# Altium footprint library libreriaPcb.PcbLib: 683 footprints (part 35 of 44)
Each footprint in its own frame and in the unit in brackets; x right, y up, seen from the top. Pads: shape width x height; smd on the part's side, far side on the other; paste and mask are expansions set on the pad; w line width, h text height; cw(c..) or ccw(c..) is an arc to the next point about the centre after c.
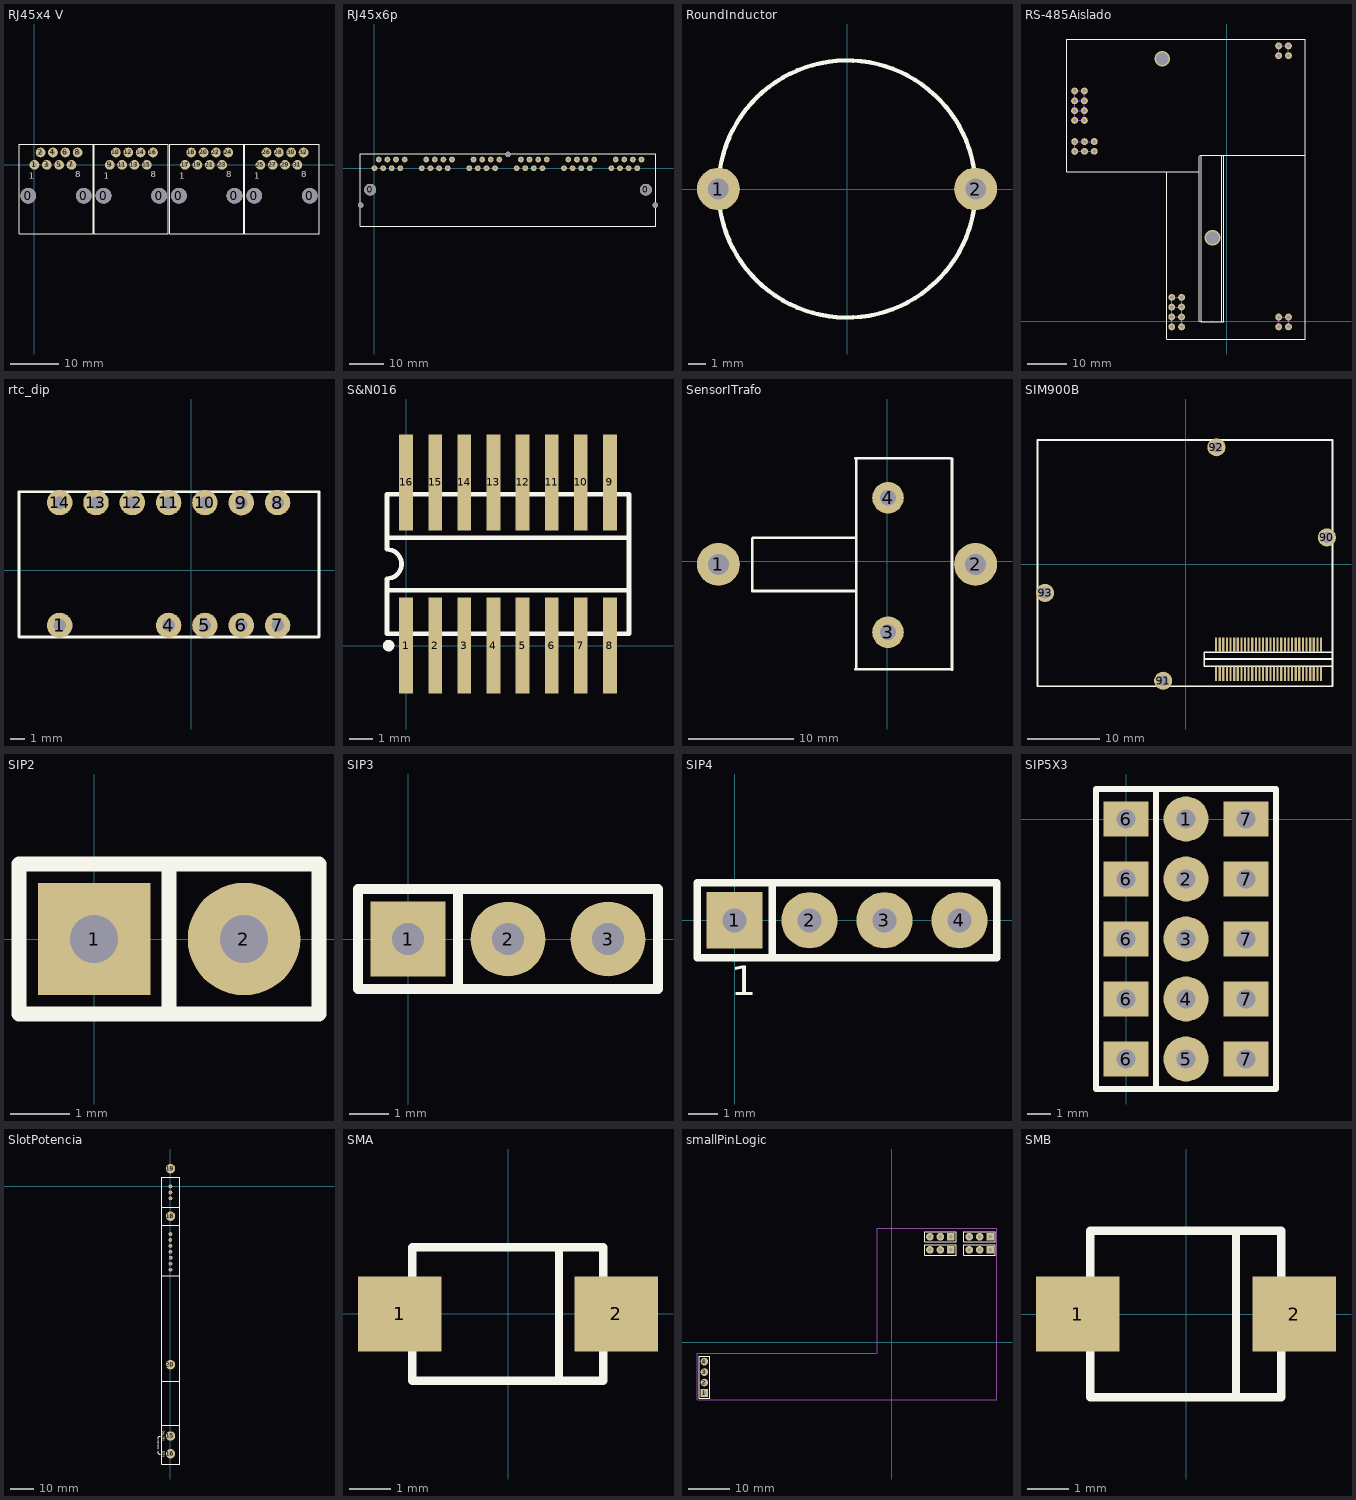
[diagram p34: the footprints below, top view; thin cyan lines are the x and y axes]

## RJ45x4 V [mm]
pads (40):
  round 3.25 hole 3.25: 0(-1.27,-6.35) 0(10.16,-6.35) 0(14.224,-6.35) 0(25.654,-6.35) 0(29.718,-6.35) 0(41.148,-6.35) 0(45.212,-6.35) 0(56.642,-6.35)
  round 2 hole 0.889: 1(0,0) 2(1.27,2.54) 3(2.54,0) 4(3.81,2.54) 5(5.08,0) 6(6.35,2.54) 7(7.62,0) 8(8.89,2.54) 9(15.494,0) 10(16.764,2.54) 11(18.034,0) 12(19.304,2.54) 13(20.574,0) 14(21.844,2.54) 15(23.114,0) 16(24.384,2.54) 17(30.988,0) 18(32.258,2.54) 19(33.528,0) 20(34.798,2.54) 21(36.068,0) 22(37.338,2.54) 23(38.608,0) 24(39.878,2.54) 25(46.482,0) 26(47.752,2.54) 27(49.022,0) 28(50.292,2.54) 29(51.562,0) 30(52.832,2.54) 31(54.102,0) 32(55.372,2.54)
Top Overlay:
  lines w0.203: -3.175,-14.182 12.065,-14.182 12.065,4.233 -3.175,4.233 -3.175,-14.182 ; 12.319,-14.182 27.559,-14.182 27.559,4.233 12.319,4.233 12.319,-14.182 ; 27.813,-14.182 43.053,-14.182 43.053,4.233 27.813,4.233 27.813,-14.182 ; 43.307,-14.182 43.307,4.233 58.547,4.233 58.547,-14.182 43.307,-14.182
  text "1" at 45.267,-2.899 h1.27
  text "8" at 54.926,-2.567 h1.27
  text "8" at 39.432,-2.567 h1.27
  text "1" at 29.773,-2.899 h1.27
  text "8" at 8.444,-2.567 h1.27
  text "1" at -1.215,-2.899 h1.27
  text "8" at 23.938,-2.567 h1.27
  text "1" at 14.279,-2.899 h1.27

## RJ45x6p [mm]
pads (53):
  round 1.6 hole 1.6: 0(-4.06,-10.92) 0(39.37,4.06) 0(82.8,-10.92)
  round 3.5 hole 3.5: 0(-1.27,-6.35) 0(80.01,-6.35)
  round 1.7 hole 0.9: 1A(0,0) 1B(13.97,0) 1C(27.94,0) 1D(41.91,0) 1E(55.88,0) 1F(69.85,0) 2A(1.27,2.54) 2B(15.24,2.54) 2C(29.21,2.54) 2D(43.18,2.54) 2E(57.15,2.54) 2F(71.12,2.54) 3A(2.54,0) 3B(16.51,0) 3C(30.48,0) 3D(44.45,0) 3E(58.42,0) 3F(72.39,0) 4A(3.81,2.54) 4B(17.78,2.54) 4C(31.75,2.54) 4D(45.72,2.54) 4E(59.69,2.54) 4F(73.66,2.54) 5A(5.08,0) 5B(19.05,0) 5C(33.02,0) 5D(46.99,0) 5E(60.96,0) 5F(74.93,0) 6A(6.35,2.54) 6B(20.32,2.54) 6C(34.29,2.54) 6D(48.26,2.54) 6E(62.23,2.54) 6F(76.2,2.54) 7A(7.62,0) 7B(21.59,0) 7C(35.56,0) 7D(49.53,0) 7E(63.5,0) 7F(77.47,0) 8A(8.89,2.54) 8B(22.86,2.54) 8C(36.83,2.54) 8D(50.8,2.54) 8E(64.77,2.54) 8F(78.74,2.54)
Top Overlay:
  lines w0.254: -4.19,-17.15 -4.19,4.19 82.93,4.19 82.93,-17.15 -4.19,-17.15

## RoundInductor [mm]
pads (2):
  round 2.5 hole 1.2: 1(-7.5,0) 2(7.5,0)
Top Overlay:
  circle w0.254: c0,0 r7.5
3D body: height 20, standoff 0, extent -7.499,-7.499 7.499,7.499

## RS-485Aislado [mm]
pads (30):
  round 1.75 hole 0.9: 0(-38.76,58.54) 1(-38.77,56.03) 2(-38.77,53.51) 3(-38.77,51.06) 4(-36.27,58.54) 5(-36.27,56.04) 6(-36.27,53.54) 7(-36.27,51.04) 8(13.14,70.01) 9(13.14,67.52) 10(15.64,70.01) 11(15.65,67.52) 12(13.16,1.02) 13(13.16,-1.47) 14(15.66,1.02) 15(15.66,-1.46) 16(-14.04,6.04) 17(-14.05,3.54) 18(-14.05,1.05) 19(-14.05,-1.48) 20(-11.55,6.04) 21(-11.55,3.59) 22(-11.55,1.04) 23(-11.55,-1.47) 24(-33.76,43.2) 25(-36.24,43.2) 26(-38.74,43.17) 27(-38.74,45.67) 28(-33.76,45.67) 29(-36.24,45.65)
via -3.68,21.17 diameter 4 hole 3.25
via -16.49,66.72 diameter 4 hole 3.25
Top Overlay:
  lines w0.254: -15.39,37.94 -7.14,37.94 ; -15.32,37.94 -15.32,-4.56 19.95,-4.56 19.95,71.71 19.9,71.76 -36.81,71.76 -40.78,71.76 -40.79,71.75 -40.79,42.02 -40.79,38.03 -40.74,37.98 -15.32,37.98 ; -7.01,-0.09 -7.01,41.99 ; -6.96,42.17 19.95,42.17 ; -6.93,-0.09 -6.45,-0.09 ; -6.52,42.01 -6.52,4.39 -6.52,-0.11 -1.34,-0.11 -1.27,-0.04 -1.27,4.42 -1.27,42.01 ; -1.27,-0.14 -0.83,-0.14 -0.79,-0.1 -0.79,42.01
Mechanical 1:
  lines w0.254: -39.09,43.17 -38.34,43.17 -38.75,43.17 ; -38.78,51.04 -38.78,58.57 ; -38.77,53.51 -38.74,53.54 -36.27,53.54 ; -38.77,56.03 -38.76,56.04 -36.3,56.04 ; -38.77,58.54 -38.77,51.06 -38.75,51.04 -36.27,51.04 ; -38.77,58.55 -38.76,58.54 -36.27,58.54 ; -38.76,51.06 -38.76,53.53 ; -38.73,43.69 -38.74,43.7 -38.74,45.67 ; -37.65,51.04 -37.97,51.04 ; -37.36,45.67 -37.04,45.67 ; -36.64,51.04 -37.97,51.04 ; -36.28,53.02 -36.27,53.01 ; -36.27,56.04 -36.27,58.54 ; -36.24,45.65 -36.26,45.67 -38.74,45.67 ; -35.94,56.04 -36.64,56.04 -36.3,56.04 ; -35.92,53.54 -36.67,53.54 -36.27,53.54 ; -35.87,58.54 -36.7,58.54 -36.27,58.54 ; -33.76,43.2 -36.24,43.2 -36.27,43.17 -38.74,43.17 -38.74,45.67 ; -33.76,45.67 -36.24,45.67 ; -14.05,-1.48 -14.05,1.04 ; -11.63,1.04 -14.04,1.04 -14.05,1.05 -14.05,3.54 ; -11.56,3.54 -14.05,3.54 ; -11.55,-1.47 -11.55,1.04 -11.55,3.54 -11.55,6.04 -14.04,6.04 -14.05,6.03 -14.05,3.54 ; -3.9,-0.13 -3.69,0.08 ; 13.14,67.52 13.14,70.01 15.64,70.01 ; 13.14,71.73 13.15,71.72 ; 13.16,-1.47 13.16,1.02 15.66,1.02 15.66,-1.48 ; 15.61,69.98 15.64,70.01 ; 15.65,67.52 15.64,67.51 15.64,70.01 ; -38.74,45.67 -37.04,45.67 ; -37.97,51.04 -38.77,51.04 -37.97,51.04 ; -37.04,45.67 -36.24,45.67 ; -37.04,45.67 -36.24,45.67 ; -36.3,56.04 -36.27,56.01 -36.27,53.54 ; -36.27,51.04 -36.27,53.54 ; -36.27,51.04 -36.27,53.01 ; -36.27,53.01 -36.27,58.54

## rtc_dip [mm]
pads (12):
  round 1.75 hole 0.85: 1(-9.05,-3.8) 4(-1.55,-3.8) 5(0.95,-3.8) 6(3.45,-3.8) 7(5.95,-3.8) 8(5.95,4.65) 9(3.45,4.646) 10(0.95,4.65) 11(-1.55,4.65) 12(-4.05,4.65) 13(-6.55,4.65) 14(-9.05,4.65)
Top Overlay:
  lines w0.2: -11.85,-4.6 8.8,-4.6 8.8,5.4 3.75,5.4 -11.85,5.4 -11.85,-4.6
3D body: height 8, standoff 0, extent -11.79,-4.59 8.8,5.4

## S&N016 [mm] "SMD"
pads (16):
  rect 0.6x4.191 smd: 1(0,0) 2(1.27,0) 3(2.54,0) 4(3.81,0) 5(5.08,0) 6(6.35,0) 7(7.62,0) 8(8.89,0) 9(8.89,7.118) 10(7.62,7.118) 11(6.35,7.118) 12(5.08,7.118) 13(3.81,7.118) 14(2.54,7.118) 15(1.27,7.118) 16(0,7.118)
Top Overlay:
  circle w0.25: c-0.76,0 r0.125
  lines w0.2: -0.83,2.413 9.72,2.413 ; -0.83,4.699 9.72,4.699 ; -0.83,0.509 9.72,0.509 9.72,6.609 -0.83,6.609 -0.83,4.194 cw(c-0.83,3.559) -0.83,2.924 -0.83,0.509

## SensorITrafo [mm]
pads (4):
  round 4.064 hole 2: 1(-16.01,-0.305) 2(8.365,-0.305)
  round 3 hole 1.5: 3(0.065,-6.73) 4(0.065,6.02)
Top Overlay:
  lines w0.254: -3.01,-10.255 5.99,-10.255 ; -3.01,9.77 5.99,9.77 ; -2.942,-10.255 -2.942,9.745 ; -2.942,-2.83 -12.81,-2.83 -12.81,2.12 -12.71,2.22 -2.942,2.22 ; 6.133,-10.305 6.133,9.695
3D body: height 4, standoff 0.2, extent -2.942,-10.255 5.99,9.745
3D body: height 19.92, standoff 0, extent -1.985,-10.255 6.015,9.706
3D body: height 17.94, standoff 2, extent -1.56,-8.378 5.44,7.591
3D body: height 11.98, standoff 8, extent -16.41,-2.305 8.59,1.687
3D body: height 0.2, standoff -1, extent -0.332,5.621 0.465,6.42
3D body: height 12, standoff 0, extent -17.994,-2.301 -14.01,1.692
3D body: height 12, standoff 0, extent 6.381,-2.301 10.365,1.692
3D body: height 0.2, standoff -1, extent -0.332,-7.129 0.465,-6.33

## SIM900B [mm]
pads (64):
  rect 0.3x2 smd: 1(18.655,-11.175) 2(18.655,-15.175) 3(18.155,-11.175) 4(18.155,-15.175) 5(17.655,-11.175) 6(17.655,-15.175) 7(17.155,-11.175) 8(17.155,-15.175) 9(16.655,-11.175) 10(16.655,-15.175) 11(16.155,-11.175) 12(16.155,-15.175) 13(15.655,-11.175) 14(15.655,-15.175) 15(15.155,-11.175) 16(15.155,-15.175) 17(14.655,-11.175) 18(14.655,-15.175) 19(14.155,-11.175) 20(14.155,-15.175) 21(13.655,-11.175) 22(13.655,-15.175) 23(13.155,-11.175) 24(13.155,-15.175) 25(12.655,-11.175) 26(12.655,-15.175) 27(12.155,-11.175) 28(12.155,-15.175) 29(11.655,-11.175) 30(11.655,-15.175) 31(11.155,-11.175) 32(11.155,-15.175) 33(10.655,-11.175) 34(10.655,-15.175) 35(10.155,-11.175) 36(10.155,-15.175) 37(9.655,-11.175) 38(9.655,-15.175) 39(9.155,-11.175) 40(9.155,-15.175) 41(8.655,-11.175) 42(8.655,-15.175) 43(8.155,-11.175) 44(8.155,-15.175) 45(7.655,-11.175) 46(7.655,-15.175) 47(7.155,-11.175) 48(7.155,-15.175) 49(6.655,-11.175) 50(6.655,-15.175) 51(6.155,-11.175) 52(6.155,-15.175) 53(5.655,-11.175) 54(5.655,-15.175) 55(5.155,-11.175) 56(5.155,-15.175) 57(4.655,-11.175) 58(4.655,-15.175) 59(4.155,-11.175) 60(4.155,-15.175)
  round 2.5 hole 1.5: 90(19.47,3.675) 91(-3.15,-16.125) 92(4.2,16.125) 93(-19.47,-3.995)
Top Overlay:
  lines w0.2: 20.255,-12.175 19.005,-12.175 2.525,-12.175 2.525,-14.155 20.275,-14.155
  lines w0.254: -19.754,-3.995 -19.246,-3.995 ; -19.5,-4.249 -19.5,-3.741 ; 2.255,-16.885 20.255,-16.885 ; 2.535,-13.125 20.265,-13.125 ; 19.236,3.675 19.744,3.675 ; 19.48,3.675 19.49,3.675 ; 19.49,3.421 19.49,3.929 ; 20.255,-12.175 20.255,-16.885 ; 20.255,-16.885 -20.505,-16.885 -20.505,17.145 20.255,17.145 20.255,-16.885

## SIP2 [mil]
pads (2):
  rect 75x75 hole 32: 1(0,0)
  round 75 hole 32: 2(100,0)
Top Overlay:
  lines w10: 50,-50 50,50 ; -50,-50 150,-50 150,50 -50,50 -50,-50

## SIP3 [mil]
pads (3):
  rect 75x75 hole 32: 1(0,0)
  round 75 hole 32: 2(100,0) 3(200,0)
Top Overlay:
  lines w10: 50,-50 50,50 ; -50,-50 250,-50 250,50 -50,50 -50,-50

## SIP4 [mil]
pads (4):
  rect 75x75 hole 32: 1(0,0)
  round 75 hole 32: 2(100,0) 3(200,0) 4(300,0)
Top Overlay:
  lines w10: 50,-50 50,50 ; -50,-50 350,-50 350,50 -50,50 -50,-50
  text "1" at -5,-100 h39.37

## SIP5X3 [mm]
pads (15):
  round 1.9 hole 0.8: 1(2.54,0) 2(2.54,-2.54) 3(2.54,-5.08) 4(2.54,-7.62) 5(2.54,-10.16)
  rect 1.9x1.5 hole 0.8: 6(0,-10.16) 6(0,-7.62) 6(0,-5.08) 6(0,-2.54) 6(0,0) 7(5.08,-10.16) 7(5.08,-7.62) 7(5.08,-5.08) 7(5.08,-2.54) 7(5.08,0)
Top Overlay:
  lines w0.254: 1.27,-11.43 1.27,-8.89 1.27,1.27 ; -1.27,-11.43 6.35,-11.43 6.35,1.27 -1.27,1.27 -1.27,-11.43

## SlotPotencia [mm]
height 101.6
pads (15):
  round 1.6 hole 0.9: 1(0,0) 2(0,-2.54) 3(0,-5.08) 6(0,-20.32) 7(-0.075,-22.86) 8(-0.025,-25.4) 9(-0.025,-27.94) 10(0.05,-30.48) 11(0,-33.02) 12(0,-35.56)
  round 4 hole 2: 15(0,-106.68) 16(0,-114.3) 18(0,-12.7) 19(0,7.62) 20(0,-76.2)
Top Overlay:
  lines w0.254: -5.225,-113.15 -5.225,-114.075 -4.775,-114.525 -4.325,-114.525 ; -5.225,-108.05 -5.225,-107.275 -4.763,-106.813 -4.363,-106.813 ; -3.775,-38.1 3.875,-38.1 ; -3.725,-102.075 3.925,-102.075 ; -3.725,-16.51 3.925,-16.51 ; -3.7,-83.2 3.95,-83.2 ; -3.7,-8.89 3.75,-8.89 ; -3.725,-118.675 -3.725,3.975 3.925,3.975 3.925,-118.675 -3.725,-118.675
  text "220VAC" at -4.9,-112.675 h0.75
  text "NEUTRO" at -2.425,-108.975 h0.75
  text "FASE" at -2.425,-115.7 h0.75

## SMA [mm]
pads (2):
  rect 2x1.8 smd: 1(-2.6,0) 2(2.6,0)
Top Overlay:
  lines w0.2: -2.295,-0.02 -2.295,-1.61 2.285,-1.61 2.285,1.6 -2.295,1.6 -2.295,0 ; 1.225,-1.6 1.225,1.6
3D body: height 2, standoff 0, extent -2.405,-1.55 2.395,1.55

## smallPinLogic [mm]
pads (16):
  rect 1.85x1.85 hole 0.9: 1(-45.402,-12.243) 21(14.287,22.428) 31(14.287,25.603) 41(23.812,22.428) 51(23.812,25.603)
  round 1.85 hole 0.9: 2(-45.402,-9.703) 3(-45.402,-7.163) 4(-45.402,-4.623) 22(11.747,22.428) 23(9.207,22.428) 32(11.747,25.603) 33(9.207,25.603) 42(21.273,22.428) 43(18.732,22.428) 52(21.273,25.603) 53(18.732,25.603)
Top Overlay:
  lines w0.2: 7.938,21.158 7.938,23.698 ; 7.938,21.158 15.557,21.158 ; 7.938,21.158 7.938,23.698 ; 7.938,21.158 15.557,21.158 ; 7.938,23.698 15.557,23.698 ; 7.938,23.698 15.557,23.698 ; 7.938,24.333 7.938,26.873 ; 7.938,24.333 15.557,24.333 ; 7.938,24.333 7.938,26.873 ; 7.938,24.333 15.557,24.333 ; 7.938,26.873 15.557,26.873 ; 7.938,26.873 15.557,26.873 ; 15.557,21.158 15.557,23.698 ; 15.557,21.158 15.557,23.698 ; 15.557,24.333 15.557,26.873 ; 15.557,24.333 15.557,26.873 ; 17.462,21.158 17.462,23.698 ; 17.462,21.158 25.082,21.158 ; 17.462,21.158 17.462,23.698 ; 17.462,21.158 25.082,21.158 ; 17.462,23.698 25.082,23.698 ; 17.462,23.698 25.082,23.698 ; 17.462,24.333 17.462,26.873 ; 17.462,24.333 25.082,24.333 ; 17.462,24.333 17.462,26.873 ; 17.462,24.333 25.082,24.333 ; 17.462,26.873 25.082,26.873 ; 17.462,26.873 25.082,26.873 ; 25.082,21.158 25.082,23.698 ; 25.082,21.158 25.082,23.698 ; 25.082,24.333 25.082,26.873 ; 25.082,24.333 25.082,26.873 ; -46.672,-13.513 -46.672,-3.353 -44.133,-3.353 -44.133,-13.513 -46.672,-13.513
Mechanical 1:
  lines w0.254: -3.721,-2.565 -47.18,-2.565 -47.117,-2.565 -47.117,-13.843 25.463,-13.843 25.463,27.635 -3.594,27.635 -3.594,-2.565
3D body: height 0.2, standoff -4, extent 7.963,21.178 15.538,23.678
3D body: height 0.2, standoff -4, extent 7.963,24.353 15.538,26.853
3D body: height 0.2, standoff -4, extent 17.488,24.353 25.063,26.853
3D body: height 0.2, standoff -4, extent 17.488,21.178 25.063,23.678
3D body: height 0.2, standoff -4, extent -46.703,-13.513 -44.203,-3.429
3D body: height 0.2, standoff -0.4, extent -47.117,-13.843 25.463,27.559

## SMB [mm]
pads (2):
  rect 2x1.8 smd: 1(-2.6,0) 2(2.6,0)
Top Overlay:
  lines w0.2: -2.295,-0.02 -2.295,-2 2.285,-2 2.285,2 -2.295,2 -2.295,0 ; 1.2,-2 1.2,2
3D body: height 2, standoff 0, extent -2.405,-2 2.395,2